# EAGLE library part MAX941 (library ads4)
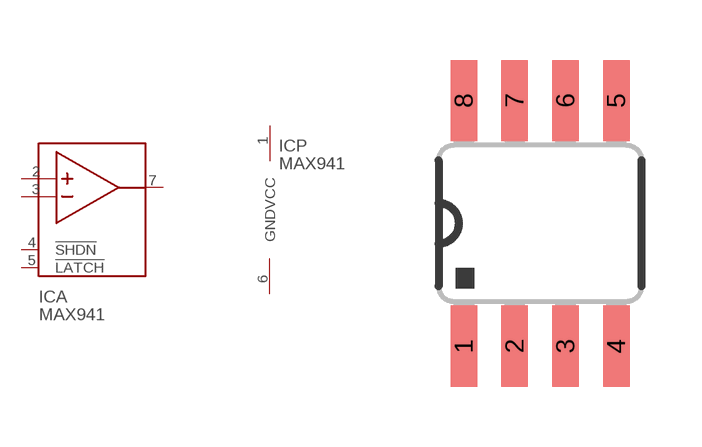
[diagram p12: symbol with the pads of SO08; footprint SO08]

Designator prefix IC; gates A=MAX941 P=POWER2

## MAX941S  [SO08]
1  P:VCC  pwr
2  A:+  in
3  A:-  in
4  A:!SHDN  in
5  A:!LATCH  in
6  P:GND  pwr
7  A:OUT  out

## Footprint SO08 (pad centres in mm)
SO08 Package from 74xx-us.lbr 0.15" body
smd 0.66 x 2.032: 1 -1.905,-3.073; 2 -0.635,-3.073; 3 0.635,-3.073; 4 1.905,-3.073; 5 1.905,3.073; 6 0.635,3.073; 7 -0.635,3.073; 8 -1.905,3.073